# EAGLE library part DF1B-6DP-2.5DS (library DF1B-6DP-2.5DS)
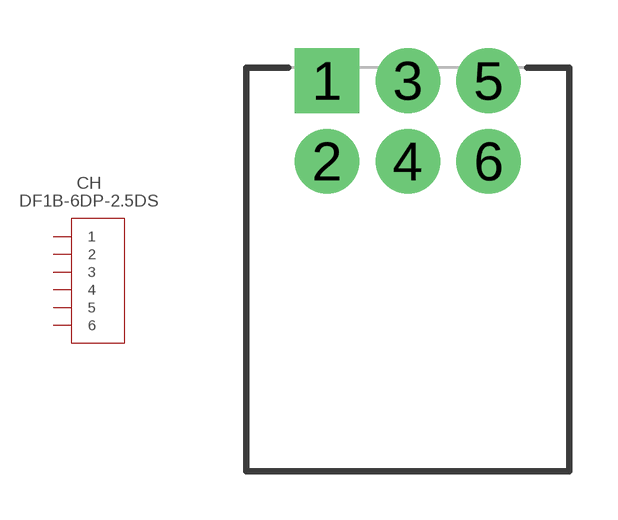
[diagram p0: symbol with the pads of DF1B-6DP-2.5DS; footprint DF1B-6DP-2.5DS]

Designator prefix CH

## DF1B-6DP-2.5DS  [DF1B-6DP-2.5DS]
1  1
2  2
3  3
4  4
5  5
6  6

## Footprint DF1B-6DP-2.5DS (pad centres in mm)
drill 1.1 pad 2 square: 1 -2.5,1.25
drill 1.1 pad 2: 2 -2.5,-1.25; 3 0,1.25; 4 0,-1.25; 5 2.5,1.25; 6 2.5,-1.25